# EAGLE library part SCP1000 (library zz-m-pad-2.1)
VTI's SCP1000-D01/D11 Pressure Sensor as Barometer and Altimeter Descriptions: The SCP1000-D01/D11 detects the smallest barometric pressure changes, enabling easy local weather forecasting and altitude measurements. Its size (Ø 6.1mm, h = 1.7mm), supply voltage (2.4 ­ 3.3V) and current consumption (0 - 50µA, under normal conditions 0 - 30µA) make it easy to integrate into hand-held equipment such as outdoor and sports watches. SCP1000-D01/D11 includes a circular pressure port with a vertical wall for o-ring sealing and it is compatible with leadfree soldering processes. The onboard temperature sensor gives the possibility to correct weather forecasting or altitude calculations for local temperature changes. SCP1000-D01/D11 communicates over standard SPI and I2C interfaces. Features: 30 kPa - 120 kPa measuring range Single +2.4 ... 3.3 V supply Four measuring modes plus power down mode On-chip linearization and temperature compensation On-chip temperature measurement Pre-programmed calibration coefficients, temperature offset and sensitivity coefficients in the EEPROM Standard digital output: SPI or I2C (1 Small package size with optional (2 sealing gasket. Diameter 6.1 mm, height 1.7 mm Proof pressure 3.2 MPa Pb-free solderable component & RoHScompatible Applications: Barometric pressure measurement and altimeter applications Home weather stations Advanced medical applications Level gauging Benefits: 1.5 Pa (10cm) resolution with < 10 µA current consumption Altimeter/barometer function can be realized with minimum use of MCU Chemically and mechanically robust package Sensor based on the proven VTI 3D-MEMS Technology Please send any comments to: messi@users.sourceforge.net
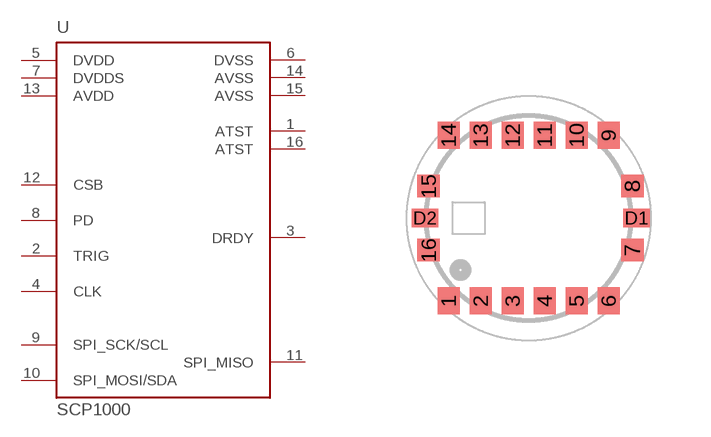
[diagram p189: symbol with the pads of SCP1000; footprint SCP1000]

Designator prefix U

## SCP1000  [SCP1000]
1  ATST  pas
2  TRIG  in
3  DRDY  out
4  CLK  in
5  DVDD  pwr
6  DVSS  pwr
7  DVDDS  pwr
8  PD  in
9  SPI_SCK/SCL  in
10  SPI_MOSI/SDA
11  SPI_MISO  out
12  CSB  in
13  AVDD  pwr
14  AVSS  pwr
15  AVSS  pwr
16  ATST  pas

## Footprint SCP1000 (pad centres in mm)
VTI's SCP1000 package
smd 0.55 x 0.67: 1 -2,-2.07; 2 -1.2,-2.07; 3 -0.4,-2.07; 4 0.4,-2.07; 5 1.2,-2.07; 6 2,-2.07; 9 2,2.07; 10 1.2,2.07; 11 0.4,2.07; 12 -0.4,2.07; 13 -1.2,2.07; 14 -2,2.07
smd 0.57 x 0.57: 7 2.6,-0.8; 8 2.6,0.8; 15 -2.5,0.8; 16 -2.5,-0.8
smd 0.67 x 0.47: D1 2.7,0; D2 -2.59,0